# EAGLE library part SCA-4-10+ (library SeniorDesign)
Surface Mount Power Splitter/Combiner Source: Datasheet <https://ww3.minicircuits.com/pdfs/SCA-4-10 .pdf>
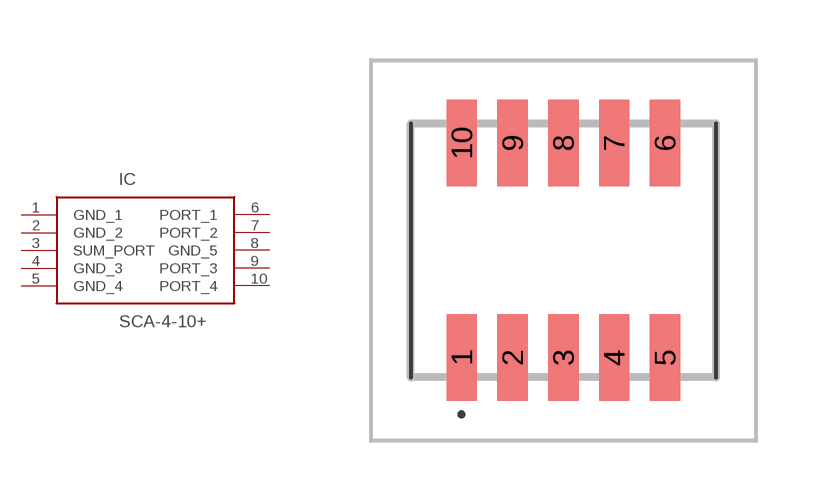
[diagram p5: symbol with the pads of SCA-4-10+; footprint SCA-4-10+]

Designator prefix IC

## SCA-4-10+ (DESCRIPTION: Surface Mount Power Splitter/Combiner; HEIGHT: 4.83mm; MANUFACTURER_NAME: Mini-Circuits; MANUFACTURER_PART_NUMBER: SCA-4-10+)  [SCA-4-10+]
1  GND_1
2  GND_2
3  SUM_PORT
4  GND_3
5  GND_4
6  PORT_1
7  PORT_2
8  GND_5
9  PORT_3
10  PORT_4

## Footprint SCA-4-10+ (pad centres in mm)
SCA-4-10+-1
smd 0.76 x 2.16: 1 -2.54,-2.68; 2 -1.27,-2.68; 3 0,-2.68; 4 1.27,-2.68; 5 2.54,-2.68; 6 2.54,2.68; 7 1.27,2.68; 8 0,2.68; 9 -1.27,2.68; 10 -2.54,2.68